# Altium integrated library TI Amplifiers and Linear Operational Amplifier High Speed.IntLib: 1100 symbols (part 40 of 44)
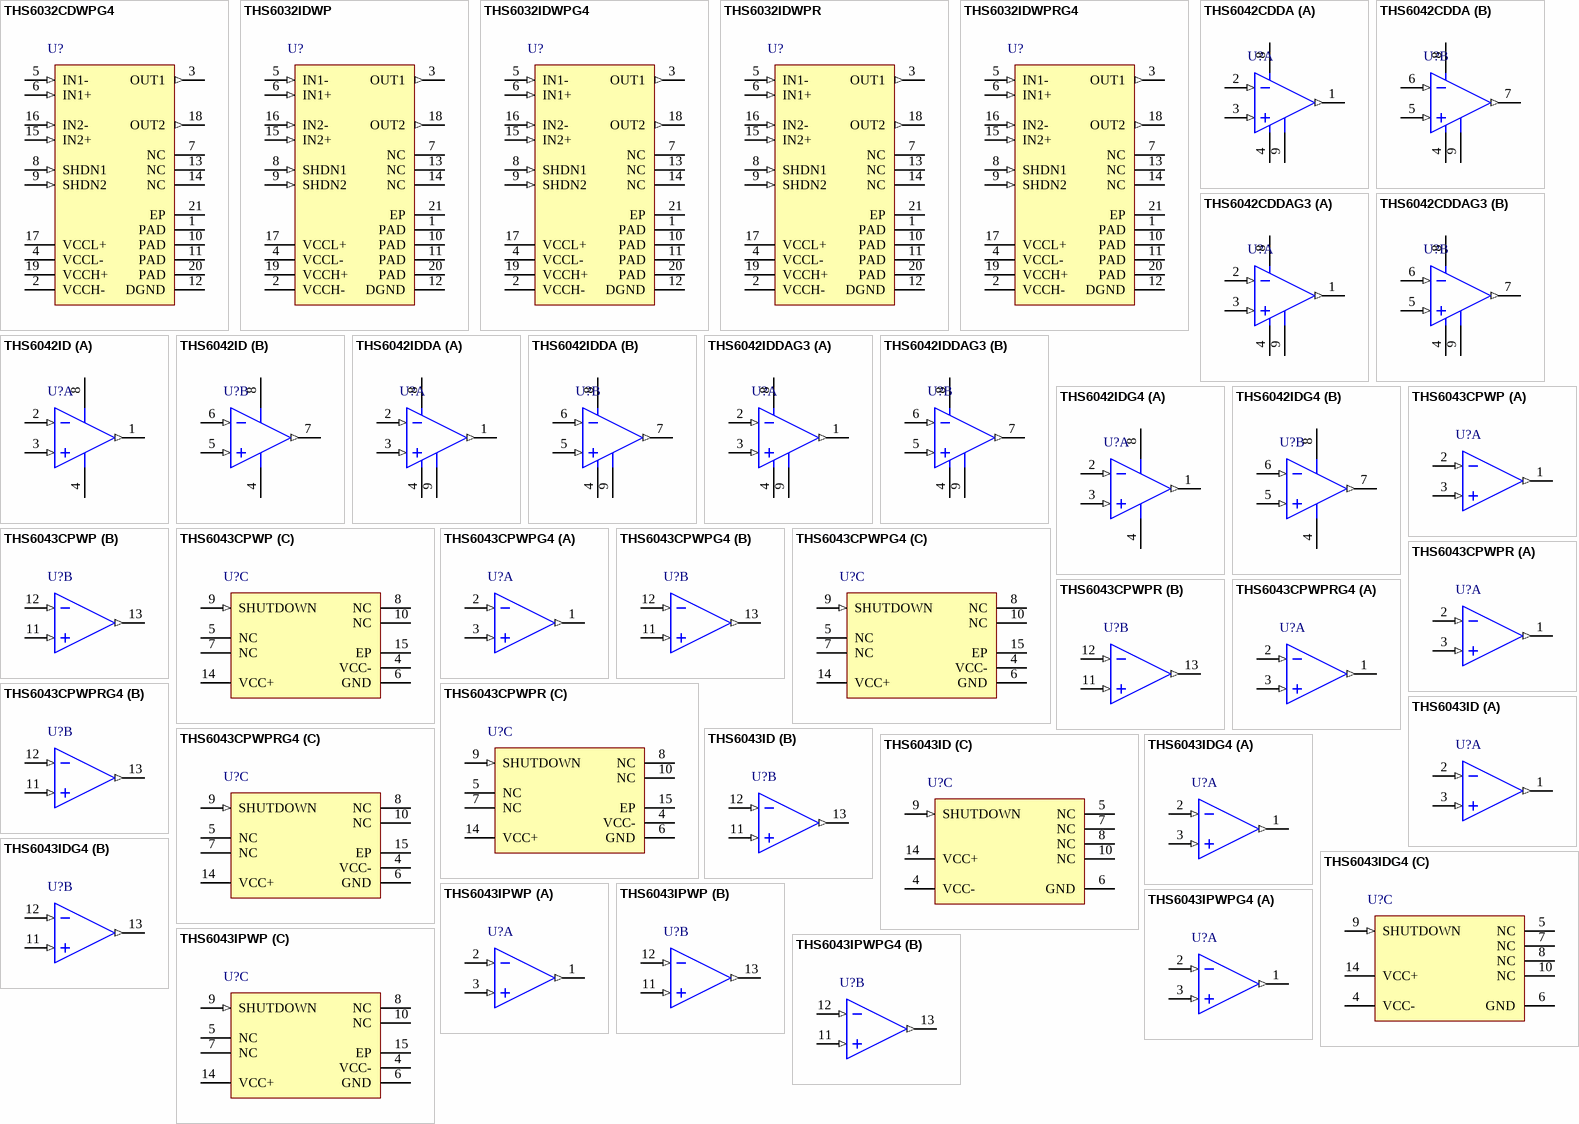
[diagram p90: symbols THS6032CDWPG4 to THS6043IPWPG4]

## THS6042CDDA
designator U?
350 mA, +/-12 V ADSL CPE Line Driver, 10 to 30 V, 0 to 70 degC, 8-pin SOP (DDA8), Green (RoHS & no Sb/Br); Manufacturer: Texas Instruments; PartNumber: THS6042CDDA; 2nd Harmonic(dBc): 53; 3rd Harmonic(dBc): 70; @ MHz: 5; Acl, min stable gain(V/V): 1; BW @ Acl(MHz): 120; Iib(Max)(nA): 12000; Io(Typ)(mA): 350; Number of Channels: 2; Slew Rate(Typ)(V/us): 1200; Sub Family: High Output Current Amplifier (>=50mA), High Speed Amplifier (>=50MHz), High Supply Voltage Amplifier (>=30V); THD (Fc is 1 MHz)(Typ)(dB): -79; Vio(Max)(mV): 21; Vn at Flatband(Typ)(nV/rtHz): 2.2; Vs(Max)(V): 30; Vs(Min)(V): 10; DatasheetVersion: SLOS264G; PackageVersion: 4202561/F, 12/2011; PackageReference: DDA8-3025X2335TP; PackageDescription: 8-Pin PowerPAD(TM) Plastic Small Outline, Body 4.9 x 3.9 mm, Pitch 1.27 mm; Supplier 1: Digi-Key; Supplier Part Number 1: THS6042CDDA-ND; Supplier 2: Newark; Supplier Part Number 2: 76C6533; Supplier 3: Mouser; Supplier Part Number 3: 595-THS6042CDDA; Eco-Plan: Green (RoHS & no Sb/Br); Mounting Technology: Surface Mount; Code_JEDEC: MS-012; ComponentLink1Description: Manufacturer URL; ComponentLink1URL: http://www.ti.com/; ComponentLink2Description: Datasheet; ComponentLink2URL: http://www.ti.com/general/docs/lit/getliterature.tsp?genericPartNumber=THS6042&fileType=pdf; ComponentLink3Description: Package Specification; ComponentLink3URL: http://www.ti.com/litv/pdf/mpds092e
footprint TI-DDA8-3025X2335TP_N (SOP, 8-Leads, Body 4.9x3.9mm, Pitch 1.27mm, Thermal Pad 3.025x2.335mm, IPC Medium Density)
footprint TI-DDA8-3025X2335TP_L (SOP, 8-Leads, Body 4.9x3.9mm, Pitch 1.27mm, Thermal Pad 3.025x2.335mm, IPC High Density)
footprint TI-DDA8-3025X2335TP_M (SOP, 8-Leads, Body 4.9x3.9mm, Pitch 1.27mm, Thermal Pad 3.025x2.335mm, IPC Low Density)
pins on every part: 4 VCC- (power), 8 VCC+ (power), 9 EP
part A pins: 1 OUT D1 (out), 2 IN D1- (in), 3 IN D1+ (in)
part B pins: 5 IN D2+ (in), 6 IN D2- (in), 7 OUT D2 (out)

## THS6042CDDAG3
designator U?
350 mA, +/-12 V ADSL CPE Line Driver, 10 to 30 V, 0 to 70 degC, 8-pin SOP (DDA8), Green (RoHS & no Sb/Br); Manufacturer: Texas Instruments; PartNumber: THS6042CDDAG3; 2nd Harmonic(dBc): 53; 3rd Harmonic(dBc): 70; @ MHz: 5; Acl, min stable gain(V/V): 1; BW @ Acl(MHz): 120; Iib(Max)(nA): 12000; Io(Typ)(mA): 350; Number of Channels: 2; Slew Rate(Typ)(V/us): 1200; Sub Family: High Output Current Amplifier (>=50mA), High Speed Amplifier (>=50MHz), High Supply Voltage Amplifier (>=30V); THD (Fc is 1 MHz)(Typ)(dB): -79; Vio(Max)(mV): 21; Vn at Flatband(Typ)(nV/rtHz): 2.2; Vs(Max)(V): 30; Vs(Min)(V): 10; DatasheetVersion: SLOS264G; PackageVersion: 4202561/F, 12/2011; PackageReference: DDA8-3025X2335TP; PackageDescription: 8-Pin PowerPAD(TM) Plastic Small Outline, Body 4.9 x 3.9 mm, Pitch 1.27 mm; Supplier 1: Digi-Key; Supplier Part Number 1: THS6042CDDAG3-ND; Supplier 2: Mouser; Supplier Part Number 2: 595-THS6042CDDAG3; Eco-Plan: Green (RoHS & no Sb/Br); Mounting Technology: Surface Mount; Code_JEDEC: MS-012; ComponentLink1Description: Manufacturer URL; ComponentLink1URL: http://www.ti.com/; ComponentLink2Description: Datasheet; ComponentLink2URL: http://www.ti.com/general/docs/lit/getliterature.tsp?genericPartNumber=THS6042&fileType=pdf; ComponentLink3Description: Package Specification; ComponentLink3URL: http://www.ti.com/litv/pdf/mpds092e
footprint TI-DDA8-3025X2335TP_N (SOP, 8-Leads, Body 4.9x3.9mm, Pitch 1.27mm, Thermal Pad 3.025x2.335mm, IPC Medium Density)
footprint TI-DDA8-3025X2335TP_L (SOP, 8-Leads, Body 4.9x3.9mm, Pitch 1.27mm, Thermal Pad 3.025x2.335mm, IPC High Density)
footprint TI-DDA8-3025X2335TP_M (SOP, 8-Leads, Body 4.9x3.9mm, Pitch 1.27mm, Thermal Pad 3.025x2.335mm, IPC Low Density)
pins on every part: 4 VCC- (power), 8 VCC+ (power), 9 EP
part A pins: 1 OUT D1 (out), 2 IN D1- (in), 3 IN D1+ (in)
part B pins: 5 IN D2+ (in), 6 IN D2- (in), 7 OUT D2 (out)

## THS6042ID
designator U?
350 mA, +/-12 V ADSL CPE Line Driver, 10 to 30 V, -40 to 85 degC, 8-pin SOIC (D8), Green (RoHS & no Sb/Br); Manufacturer: Texas Instruments; PartNumber: THS6042ID; 2nd Harmonic(dBc): 53; 3rd Harmonic(dBc): 70; @ MHz: 5; Acl, min stable gain(V/V): 1; BW @ Acl(MHz): 120; Iib(Max)(nA): 12000; Io(Typ)(mA): 350; Number of Channels: 2; Slew Rate(Typ)(V/us): 1200; Sub Family: High Output Current Amplifier (>=50mA), High Speed Amplifier (>=50MHz), High Supply Voltage Amplifier (>=30V); THD (Fc is 1 MHz)(Typ)(dB): -79; Vio(Max)(mV): 21; Vn at Flatband(Typ)(nV/rtHz): 2.2; Vs(Max)(V): 30; Vs(Min)(V): 10; DatasheetVersion: SLOS264G; PackageVersion: 4040047-3/M, 06/2011; PackageReference: D8; PackageDescription: 8-Pin Plastic Small Outline, Body 4.9 x 3.9 mm, Pitch 1.27 mm; Supplier 1: Digi-Key; Supplier Part Number 1: 296-12315-5-ND; Supplier 2: Farnell; Supplier Part Number 2: 1755222; Supplier 3: Newark; Supplier Part Number 3: 76C6536; Supplier 4: Mouser; Supplier Part Number 4: 595-THS6042ID; Eco-Plan: Green (RoHS & no Sb/Br); Mounting Technology: Surface Mount; Code_JEDEC: MS-012; ComponentLink1Description: Manufacturer URL; ComponentLink1URL: http://www.ti.com/; ComponentLink2Description: Datasheet; ComponentLink2URL: http://www.ti.com/general/docs/lit/getliterature.tsp?genericPartNumber=THS6042&fileType=pdf; ComponentLink3Description: Package Specification; ComponentLink3URL: http://www.ti.com/litv/pdf/msoi002j
footprint TI-D8_N (SOIC, 8-Leads, Body 4.9x3.9mm, Pitch 1.27mm, IPC Medium Density)
footprint TI-D8_L (SOIC, 8-Leads, Body 4.9x3.9mm, Pitch 1.27mm, IPC High Density)
footprint TI-D8_M (SOIC, 8-Leads, Body 4.9x3.9mm, Pitch 1.27mm, IPC Low Density)
pins on every part: 4 VCC- (power), 8 VCC+ (power)
part A pins: 1 OUT D1 (out), 2 IN D1- (in), 3 IN D1+ (in)
part B pins: 5 IN D2+ (in), 6 IN D2- (in), 7 OUT D2 (out)

## THS6042IDDA
designator U?
350 mA, +/-12 V ADSL CPE Line Driver, 10 to 30 V, -40 to 85 degC, 8-pin SOP (DDA8), Green (RoHS & no Sb/Br); Manufacturer: Texas Instruments; PartNumber: THS6042IDDA; 2nd Harmonic(dBc): 53; 3rd Harmonic(dBc): 70; @ MHz: 5; Acl, min stable gain(V/V): 1; BW @ Acl(MHz): 120; Iib(Max)(nA): 12000; Io(Typ)(mA): 350; Number of Channels: 2; Slew Rate(Typ)(V/us): 1200; Sub Family: High Output Current Amplifier (>=50mA), High Speed Amplifier (>=50MHz), High Supply Voltage Amplifier (>=30V); THD (Fc is 1 MHz)(Typ)(dB): -79; Vio(Max)(mV): 21; Vn at Flatband(Typ)(nV/rtHz): 2.2; Vs(Max)(V): 30; Vs(Min)(V): 10; DatasheetVersion: SLOS264G; PackageVersion: 4202561/F, 12/2011; PackageReference: DDA8-3025X2335TP; PackageDescription: 8-Pin PowerPAD(TM) Plastic Small Outline, Body 4.9 x 3.9 mm, Pitch 1.27 mm; Supplier 1: Digi-Key; Supplier Part Number 1: 296-12667-5-ND; Supplier 2: Newark; Supplier Part Number 2: 76C6537; Supplier 3: Mouser; Supplier Part Number 3: 595-THS6042IDDA; Eco-Plan: Green (RoHS & no Sb/Br); Mounting Technology: Surface Mount; Code_JEDEC: MS-012; ComponentLink1Description: Manufacturer URL; ComponentLink1URL: http://www.ti.com/; ComponentLink2Description: Datasheet; ComponentLink2URL: http://www.ti.com/general/docs/lit/getliterature.tsp?genericPartNumber=THS6042&fileType=pdf; ComponentLink3Description: Package Specification; ComponentLink3URL: http://www.ti.com/litv/pdf/mpds092e
footprint TI-DDA8-3025X2335TP_N (SOP, 8-Leads, Body 4.9x3.9mm, Pitch 1.27mm, Thermal Pad 3.025x2.335mm, IPC Medium Density)
footprint TI-DDA8-3025X2335TP_L (SOP, 8-Leads, Body 4.9x3.9mm, Pitch 1.27mm, Thermal Pad 3.025x2.335mm, IPC High Density)
footprint TI-DDA8-3025X2335TP_M (SOP, 8-Leads, Body 4.9x3.9mm, Pitch 1.27mm, Thermal Pad 3.025x2.335mm, IPC Low Density)
pins on every part: 4 VCC- (power), 8 VCC+ (power), 9 EP
part A pins: 1 OUT D1 (out), 2 IN D1- (in), 3 IN D1+ (in)
part B pins: 5 IN D2+ (in), 6 IN D2- (in), 7 OUT D2 (out)

## THS6042IDDAG3
designator U?
350 mA, +/-12 V ADSL CPE Line Driver, 10 to 30 V, -40 to 85 degC, 8-pin SOP (DDA8), Green (RoHS & no Sb/Br); Manufacturer: Texas Instruments; PartNumber: THS6042IDDAG3; 2nd Harmonic(dBc): 53; 3rd Harmonic(dBc): 70; @ MHz: 5; Acl, min stable gain(V/V): 1; BW @ Acl(MHz): 120; Iib(Max)(nA): 12000; Io(Typ)(mA): 350; Number of Channels: 2; Slew Rate(Typ)(V/us): 1200; Sub Family: High Output Current Amplifier (>=50mA), High Speed Amplifier (>=50MHz), High Supply Voltage Amplifier (>=30V); THD (Fc is 1 MHz)(Typ)(dB): -79; Vio(Max)(mV): 21; Vn at Flatband(Typ)(nV/rtHz): 2.2; Vs(Max)(V): 30; Vs(Min)(V): 10; DatasheetVersion: SLOS264G; PackageVersion: 4202561/F, 12/2011; PackageReference: DDA8-3025X2335TP; PackageDescription: 8-Pin PowerPAD(TM) Plastic Small Outline, Body 4.9 x 3.9 mm, Pitch 1.27 mm; Supplier 1: Digi-Key; Supplier Part Number 1: THS6042IDDAG3-ND; Supplier 2: Newark; Supplier Part Number 2: 18M3155; Supplier 3: Mouser; Supplier Part Number 3: 595-THS6042IDDAG3; Eco-Plan: Green (RoHS & no Sb/Br); Mounting Technology: Surface Mount; Code_JEDEC: MS-012; ComponentLink1Description: Manufacturer URL; ComponentLink1URL: http://www.ti.com/; ComponentLink2Description: Datasheet; ComponentLink2URL: http://www.ti.com/general/docs/lit/getliterature.tsp?genericPartNumber=THS6042&fileType=pdf; ComponentLink3Description: Package Specification; ComponentLink3URL: http://www.ti.com/litv/pdf/mpds092e
footprint TI-DDA8-3025X2335TP_N (SOP, 8-Leads, Body 4.9x3.9mm, Pitch 1.27mm, Thermal Pad 3.025x2.335mm, IPC Medium Density)
footprint TI-DDA8-3025X2335TP_L (SOP, 8-Leads, Body 4.9x3.9mm, Pitch 1.27mm, Thermal Pad 3.025x2.335mm, IPC High Density)
footprint TI-DDA8-3025X2335TP_M (SOP, 8-Leads, Body 4.9x3.9mm, Pitch 1.27mm, Thermal Pad 3.025x2.335mm, IPC Low Density)
pins on every part: 4 VCC- (power), 8 VCC+ (power), 9 EP
part A pins: 1 OUT D1 (out), 2 IN D1- (in), 3 IN D1+ (in)
part B pins: 5 IN D2+ (in), 6 IN D2- (in), 7 OUT D2 (out)

## THS6042IDG4
designator U?
350 mA, +/-12 V ADSL CPE Line Driver, 10 to 30 V, -40 to 85 degC, 8-pin SOIC (D8), Green (RoHS & no Sb/Br); Manufacturer: Texas Instruments; PartNumber: THS6042IDG4; 2nd Harmonic(dBc): 53; 3rd Harmonic(dBc): 70; @ MHz: 5; Acl, min stable gain(V/V): 1; BW @ Acl(MHz): 120; Iib(Max)(nA): 10000; Io(Typ)(mA): 350; Iq per channel(Max)(mA): 11; Number of Channels: 2; Slew Rate(Typ)(V/us): 1200; Sub Family: High Output Current Amplifier (>=50mA), High Speed Amplifier (>=50MHz), High Supply Voltage Amplifier (>=30V); THD (Fc is 1 MHz)(Typ)(dB): -79; Vio(Max)(mV): 16; Vn at Flatband(Typ)(nV/rtHz): 2.2; Vs(Max)(V): 30; Vs(Min)(V): 10; DatasheetVersion: SLOS264G; PackageVersion: 4040047-3/M, 06/2011; PackageReference: D8; PackageDescription: 8-Pin Plastic Small Outline, Body 4.9 x 3.9 mm, Pitch 1.27 mm; Supplier 1: Digi-Key; Supplier Part Number 1: THS6042IDG4-ND; Supplier 2: Mouser; Supplier Part Number 2: 595-THS6042IDG4; Eco-Plan: Green (RoHS & no Sb/Br); Mounting Technology: Surface Mount; Code_JEDEC: MS-012; ComponentLink1Description: Manufacturer URL; ComponentLink1URL: http://www.ti.com/; ComponentLink2Description: Datasheet; ComponentLink2URL: http://www.ti.com/general/docs/lit/getliterature.tsp?genericPartNumber=THS6042&fileType=pdf; ComponentLink3Description: Package Specification; ComponentLink3URL: http://www.ti.com/litv/pdf/msoi002j
footprint TI-D8_N (SOIC, 8-Leads, Body 4.9x3.9mm, Pitch 1.27mm, IPC Medium Density)
footprint TI-D8_L (SOIC, 8-Leads, Body 4.9x3.9mm, Pitch 1.27mm, IPC High Density)
footprint TI-D8_M (SOIC, 8-Leads, Body 4.9x3.9mm, Pitch 1.27mm, IPC Low Density)
pins on every part: 4 VCC- (power), 8 VCC+ (power)
part A pins: 1 OUT D1 (out), 2 IN D1- (in), 3 IN D1+ (in)
part B pins: 5 IN D2+ (in), 6 IN D2- (in), 7 OUT D2 (out)

## THS6043CPWP
designator U?
350 mA, +/-12 V ADSL CPE Line Driver with Shutdown, 10 to 30 V, 0 to 70 degC, 14-pin SOP (PWP14), Green (RoHS & no Sb/Br); Manufacturer: Texas Instruments; PartNumber: THS6043CPWP; 2nd Harmonic(dBc): 53; 3rd Harmonic(dBc): 70; @ MHz: 5; Acl, min stable gain(V/V): 1; BW @ Acl(MHz): 120; Iib(Max)(nA): 12000; Io(Typ)(mA): 350; Number of Channels: 2; Slew Rate(Typ)(V/us): 1200; Sub Family: High Output Current Amplifier (>=50mA), High Speed Amplifier (>=50MHz), High Supply Voltage Amplifier (>=30V); THD (Fc is 1 MHz)(Typ)(dB): -79; Vio(Max)(mV): 21; Vn at Flatband(Typ)(nV/rtHz): 2.2; Vs(Max)(V): 30; Vs(Min)(V): 10; DatasheetVersion: SLOS264G; PackageVersion: 4073225-2/I, 05/2011; PackageReference: PWP14-1830X2055TP; PackageDescription: 14-Pin Plastic Small Outline, Body 4.4 x 5 mm, Pitch 0.65 mm; Supplier 1: Digi-Key; Supplier Part Number 1: 296-34231-5-ND; Supplier 2: Newark; Supplier Part Number 2: 76C6542; Supplier 3: Mouser; Supplier Part Number 3: 595-THS6043CPWP; Eco-Plan: Green (RoHS & no Sb/Br); Mounting Technology: Surface Mount; Code_JEDEC: MO-153; ComponentLink1Description: Manufacturer URL; ComponentLink1URL: http://www.ti.com/; ComponentLink2Description: Datasheet; ComponentLink2URL: http://www.ti.com/general/docs/lit/getliterature.tsp?genericPartNumber=THS6043&fileType=pdf; ComponentLink3Description: Package Specification; ComponentLink3URL: http://www.ti.com/litv/pdf/mpds373
footprint TI-PWP14-1830X2055TP_N (SOP, 14-Leads, Body 5x4.4mm, Pitch 0.65mm, Thermal Pad 1.830x2.055mm, IPC Medium Density)
footprint TI-PWP14-1830X2055TP_L (SOP, 14-Leads, Body 5x4.4mm, Pitch 0.65mm, Thermal Pad 1.830x2.055mm, IPC High Density)
footprint TI-PWP14-1830X2055TP_M (SOP, 14-Leads, Body 5x4.4mm, Pitch 0.65mm, Thermal Pad 1.830x2.055mm, IPC Low Density)
part A pins: 1 OUT D1 (out), 2 IN D1- (in), 3 IN D1+ (in)
part B pins: 11 IN D2+ (in), 12 IN D2- (in), 13 OUT D2 (out)
part C pins: 4 VCC- (power), 5 NC, 6 GND (power), 7 NC, 8 NC, 9 SHUTDOWN (in), 10 NC, 14 VCC+ (power), 15 EP

## THS6043CPWPG4
designator U?
350 mA, +/-12 V ADSL CPE Line Driver with Shutdown, 10 to 30 V, 0 to 70 degC, 14-pin SOP (PWP14), Green (RoHS & no Sb/Br); Manufacturer: Texas Instruments; PartNumber: THS6043CPWPG4; 2nd Harmonic(dBc): 53; 3rd Harmonic(dBc): 70; @ MHz: 5; Acl, min stable gain(V/V): 1; BW @ Acl(MHz): 120; Iib(Max)(nA): 12000; Io(Typ)(mA): 350; Number of Channels: 2; Slew Rate(Typ)(V/us): 1200; Sub Family: High Output Current Amplifier (>=50mA), High Speed Amplifier (>=50MHz), High Supply Voltage Amplifier (>=30V); THD (Fc is 1 MHz)(Typ)(dB): -79; Vio(Max)(mV): 21; Vn at Flatband(Typ)(nV/rtHz): 2.2; Vs(Max)(V): 30; Vs(Min)(V): 10; DatasheetVersion: SLOS264G; PackageVersion: 4073225-2/I, 05/2011; PackageReference: PWP14-1830X2055TP; PackageDescription: 14-Pin Plastic Small Outline, Body 4.4 x 5 mm, Pitch 0.65 mm; Supplier 1: Digi-Key; Supplier Part Number 1: THS6043CPWPG4-ND; Supplier 2: Mouser; Supplier Part Number 2: 595-THS6043CPWPG4; Eco-Plan: Green (RoHS & no Sb/Br); Mounting Technology: Surface Mount; Code_JEDEC: MO-153; ComponentLink1Description: Manufacturer URL; ComponentLink1URL: http://www.ti.com/; ComponentLink2Description: Datasheet; ComponentLink2URL: http://www.ti.com/general/docs/lit/getliterature.tsp?genericPartNumber=THS6043&fileType=pdf; ComponentLink3Description: Package Specification; ComponentLink3URL: http://www.ti.com/litv/pdf/mpds373
footprint TI-PWP14-1830X2055TP_N (SOP, 14-Leads, Body 5x4.4mm, Pitch 0.65mm, Thermal Pad 1.830x2.055mm, IPC Medium Density)
footprint TI-PWP14-1830X2055TP_L (SOP, 14-Leads, Body 5x4.4mm, Pitch 0.65mm, Thermal Pad 1.830x2.055mm, IPC High Density)
footprint TI-PWP14-1830X2055TP_M (SOP, 14-Leads, Body 5x4.4mm, Pitch 0.65mm, Thermal Pad 1.830x2.055mm, IPC Low Density)
part A pins: 1 OUT D1 (out), 2 IN D1- (in), 3 IN D1+ (in)
part B pins: 11 IN D2+ (in), 12 IN D2- (in), 13 OUT D2 (out)
part C pins: 4 VCC- (power), 5 NC, 6 GND (power), 7 NC, 8 NC, 9 SHUTDOWN (in), 10 NC, 14 VCC+ (power), 15 EP

## THS6043CPWPR
designator U?
350 mA, +/-12 V ADSL CPE Line Driver with Shutdown, 10 to 30 V, 0 to 70 degC, 14-pin SOP (PWP14), Green (RoHS & no Sb/Br); Manufacturer: Texas Instruments; PartNumber: THS6043CPWPR; 2nd Harmonic(dBc): 53; 3rd Harmonic(dBc): 70; @ MHz: 5; Acl, min stable gain(V/V): 1; BW @ Acl(MHz): 120; Iib(Max)(nA): 12000; Io(Typ)(mA): 350; Number of Channels: 2; Slew Rate(Typ)(V/us): 1200; Sub Family: High Output Current Amplifier (>=50mA), High Speed Amplifier (>=50MHz), High Supply Voltage Amplifier (>=30V); THD (Fc is 1 MHz)(Typ)(dB): -79; Vio(Max)(mV): 21; Vn at Flatband(Typ)(nV/rtHz): 2.2; Vs(Max)(V): 30; Vs(Min)(V): 10; DatasheetVersion: SLOS264G; PackageVersion: 4073225-2/I, 05/2011; PackageReference: PWP14-1830X2055TP; PackageDescription: 14-Pin Plastic Small Outline, Body 4.4 x 5 mm, Pitch 0.65 mm; Supplier 1: Digi-Key; Supplier Part Number 1: THS6043CPWPR-ND; Supplier 2: Mouser; Supplier Part Number 2: 595-THS6043CPWPR; Eco-Plan: Green (RoHS & no Sb/Br); Mounting Technology: Surface Mount; Code_JEDEC: MO-153; ComponentLink1Description: Manufacturer URL; ComponentLink1URL: http://www.ti.com/; ComponentLink2Description: Datasheet; ComponentLink2URL: http://www.ti.com/general/docs/lit/getliterature.tsp?genericPartNumber=THS6043&fileType=pdf; ComponentLink3Description: Package Specification; ComponentLink3URL: http://www.ti.com/litv/pdf/mpds373
footprint TI-PWP14-1830X2055TP_N (SOP, 14-Leads, Body 5x4.4mm, Pitch 0.65mm, Thermal Pad 1.830x2.055mm, IPC Medium Density)
footprint TI-PWP14-1830X2055TP_L (SOP, 14-Leads, Body 5x4.4mm, Pitch 0.65mm, Thermal Pad 1.830x2.055mm, IPC High Density)
footprint TI-PWP14-1830X2055TP_M (SOP, 14-Leads, Body 5x4.4mm, Pitch 0.65mm, Thermal Pad 1.830x2.055mm, IPC Low Density)
part A pins: 1 OUT D1 (out), 2 IN D1- (in), 3 IN D1+ (in)
part B pins: 11 IN D2+ (in), 12 IN D2- (in), 13 OUT D2 (out)
part C pins: 4 VCC- (power), 5 NC, 6 GND (power), 7 NC, 8 NC, 9 SHUTDOWN (in), 10 NC, 14 VCC+ (power), 15 EP

## THS6043CPWPRG4
designator U?
350 mA, +/-12 V ADSL CPE Line Driver with Shutdown, 10 to 30 V, 0 to 70 degC, 14-pin SOP (PWP14), Green (RoHS & no Sb/Br); Manufacturer: Texas Instruments; PartNumber: THS6043CPWPRG4; 2nd Harmonic(dBc): 53; 3rd Harmonic(dBc): 70; @ MHz: 5; Acl, min stable gain(V/V): 1; BW @ Acl(MHz): 120; Iib(Max)(nA): 12000; Io(Typ)(mA): 350; Number of Channels: 2; Slew Rate(Typ)(V/us): 1200; Sub Family: High Output Current Amplifier (>=50mA), High Speed Amplifier (>=50MHz), High Supply Voltage Amplifier (>=30V); THD (Fc is 1 MHz)(Typ)(dB): -79; Vio(Max)(mV): 21; Vn at Flatband(Typ)(nV/rtHz): 2.2; Vs(Max)(V): 30; Vs(Min)(V): 10; DatasheetVersion: SLOS264G; PackageVersion: 4073225-2/I, 05/2011; PackageReference: PWP14-1830X2055TP; PackageDescription: 14-Pin Plastic Small Outline, Body 4.4 x 5 mm, Pitch 0.65 mm; Supplier 1: Digi-Key; Supplier Part Number 1: THS6043CPWPRG4-ND; Supplier 2: Mouser; Supplier Part Number 2: 595-THS6043CPWPRG4; Eco-Plan: Green (RoHS & no Sb/Br); Mounting Technology: Surface Mount; Code_JEDEC: MO-153; ComponentLink1Description: Manufacturer URL; ComponentLink1URL: http://www.ti.com/; ComponentLink2Description: Datasheet; ComponentLink2URL: http://www.ti.com/general/docs/lit/getliterature.tsp?genericPartNumber=THS6043&fileType=pdf; ComponentLink3Description: Package Specification; ComponentLink3URL: http://www.ti.com/litv/pdf/mpds373
footprint TI-PWP14-1830X2055TP_N (SOP, 14-Leads, Body 5x4.4mm, Pitch 0.65mm, Thermal Pad 1.830x2.055mm, IPC Medium Density)
footprint TI-PWP14-1830X2055TP_L (SOP, 14-Leads, Body 5x4.4mm, Pitch 0.65mm, Thermal Pad 1.830x2.055mm, IPC High Density)
footprint TI-PWP14-1830X2055TP_M (SOP, 14-Leads, Body 5x4.4mm, Pitch 0.65mm, Thermal Pad 1.830x2.055mm, IPC Low Density)
part A pins: 1 OUT D1 (out), 2 IN D1- (in), 3 IN D1+ (in)
part B pins: 11 IN D2+ (in), 12 IN D2- (in), 13 OUT D2 (out)
part C pins: 4 VCC- (power), 5 NC, 6 GND (power), 7 NC, 8 NC, 9 SHUTDOWN (in), 10 NC, 14 VCC+ (power), 15 EP

## THS6043ID
designator U?
350 mA, +/-12 V ADSL CPE Line Driver with Shutdown, 10 to 30 V, -40 to 85 degC, 14-pin SOIC (D14), Green (RoHS & no Sb/Br); Manufacturer: Texas Instruments; PartNumber: THS6043ID; 2nd Harmonic(dBc): 53; 3rd Harmonic(dBc): 70; @ MHz: 5; Acl, min stable gain(V/V): 1; BW @ Acl(MHz): 120; Iib(Max)(nA): 12000; Io(Typ)(mA): 350; Number of Channels: 2; Slew Rate(Typ)(V/us): 1200; Sub Family: High Output Current Amplifier (>=50mA), High Speed Amplifier (>=50MHz), High Supply Voltage Amplifier (>=30V); THD (Fc is 1 MHz)(Typ)(dB): -79; Vio(Max)(mV): 21; Vn at Flatband(Typ)(nV/rtHz): 2.2; Vs(Max)(V): 30; Vs(Min)(V): 10; DatasheetVersion: SLOS264G; PackageVersion: 4040047-5/M, 06/2011; PackageReference: D14; PackageDescription: 14-Pin Plastic Small Outline, Body 8.65 x 3.9 mm, Pitch 1.27 mm; Supplier 1: Digi-Key; Supplier Part Number 1: 296-12316-5-ND; Supplier 2: Mouser; Supplier Part Number 2: 595-THS6043ID; Eco-Plan: Green (RoHS & no Sb/Br); Mounting Technology: Surface Mount; Code_JEDEC: MS-012; ComponentLink1Description: Manufacturer URL; ComponentLink1URL: http://www.ti.com/; ComponentLink2Description: Datasheet; ComponentLink2URL: http://www.ti.com/general/docs/lit/getliterature.tsp?genericPartNumber=THS6043&fileType=pdf; ComponentLink3Description: Package Specification; ComponentLink3URL: http://www.ti.com/lit/ml/mpds177g/mpds177g.pdf
footprint TI-D14_N (SOIC, 14-Leads, Body 8.65x3.9mm, Pitch 1.27mm, IPC Medium Density)
footprint TI-D14_L (SOIC, 14-Leads, Body 8.65x3.9mm, Pitch 1.27mm, IPC High Density)
footprint TI-D14_M (SOIC, 14-Leads, Body 8.65x3.9mm, Pitch 1.27mm, IPC Low Density)
part A pins: 1 OUT D1 (out), 2 IN D1- (in), 3 IN D1+ (in)
part B pins: 11 IN D2+ (in), 12 IN D2- (in), 13 OUT D2 (out)
part C pins: 4 VCC- (power), 5 NC, 6 GND (power), 7 NC, 8 NC, 9 SHUTDOWN (in), 10 NC, 14 VCC+ (power)

## THS6043IDG4
designator U?
350 mA, +/-12 V ADSL CPE Line Driver with Shutdown, 10 to 30 V, -40 to 85 degC, 14-pin SOIC (D14), Green (RoHS & no Sb/Br); Manufacturer: Texas Instruments; PartNumber: THS6043IDG4; 2nd Harmonic(dBc): 53; 3rd Harmonic(dBc): 70; @ MHz: 5; Acl, min stable gain(V/V): 1; BW @ Acl(MHz): 120; Iib(Max)(nA): 12000; Io(Typ)(mA): 350; Number of Channels: 2; Slew Rate(Typ)(V/us): 1200; Sub Family: High Output Current Amplifier (>=50mA), High Speed Amplifier (>=50MHz), High Supply Voltage Amplifier (>=30V); THD (Fc is 1 MHz)(Typ)(dB): -79; Vio(Max)(mV): 21; Vn at Flatband(Typ)(nV/rtHz): 2.2; Vs(Max)(V): 30; Vs(Min)(V): 10; DatasheetVersion: SLOS264G; PackageVersion: 4040047-5/M, 06/2011; PackageReference: D14; PackageDescription: 14-Pin Plastic Small Outline, Body 8.65 x 3.9 mm, Pitch 1.27 mm; Supplier 1: Digi-Key; Supplier Part Number 1: THS6043IDG4-ND; Supplier 2: Mouser; Supplier Part Number 2: 595-THS6043IDG4; Eco-Plan: Green (RoHS & no Sb/Br); Mounting Technology: Surface Mount; Code_JEDEC: MS-012; ComponentLink1Description: Manufacturer URL; ComponentLink1URL: http://www.ti.com/; ComponentLink2Description: Datasheet; ComponentLink2URL: http://www.ti.com/general/docs/lit/getliterature.tsp?genericPartNumber=THS6043&fileType=pdf; ComponentLink3Description: Package Specification; ComponentLink3URL: http://www.ti.com/lit/ml/mpds177g/mpds177g.pdf
footprint TI-D14_N (SOIC, 14-Leads, Body 8.65x3.9mm, Pitch 1.27mm, IPC Medium Density)
footprint TI-D14_L (SOIC, 14-Leads, Body 8.65x3.9mm, Pitch 1.27mm, IPC High Density)
footprint TI-D14_M (SOIC, 14-Leads, Body 8.65x3.9mm, Pitch 1.27mm, IPC Low Density)
part A pins: 1 OUT D1 (out), 2 IN D1- (in), 3 IN D1+ (in)
part B pins: 11 IN D2+ (in), 12 IN D2- (in), 13 OUT D2 (out)
part C pins: 4 VCC- (power), 5 NC, 6 GND (power), 7 NC, 8 NC, 9 SHUTDOWN (in), 10 NC, 14 VCC+ (power)

## THS6043IPWP
designator U?
350 mA, +/-12 V ADSL CPE Line Driver with Shutdown, 10 to 30 V, -40 to 85 degC, 14-pin SOP (PWP14), Green (RoHS & no Sb/Br); Manufacturer: Texas Instruments; PartNumber: THS6043IPWP; 2nd Harmonic(dBc): 53; 3rd Harmonic(dBc): 70; @ MHz: 5; Acl, min stable gain(V/V): 1; BW @ Acl(MHz): 120; Iib(Max)(nA): 12000; Io(Typ)(mA): 350; Number of Channels: 2; Slew Rate(Typ)(V/us): 1200; Sub Family: High Output Current Amplifier (>=50mA), High Speed Amplifier (>=50MHz), High Supply Voltage Amplifier (>=30V); THD (Fc is 1 MHz)(Typ)(dB): -79; Vio(Max)(mV): 21; Vn at Flatband(Typ)(nV/rtHz): 2.2; Vs(Max)(V): 30; Vs(Min)(V): 10; DatasheetVersion: SLOS264G; PackageVersion: 4073225-2/I, 05/2011; PackageReference: PWP14-1830X2055TP; PackageDescription: 14-Pin Plastic Small Outline, Body 4.4 x 5 mm, Pitch 0.65 mm; Supplier 1: Digi-Key; Supplier Part Number 1: 296-12317-5-ND; Supplier 2: Mouser; Supplier Part Number 2: 595-THS6043IPWP; Eco-Plan: Green (RoHS & no Sb/Br); Mounting Technology: Surface Mount; Code_JEDEC: MO-153; ComponentLink1Description: Manufacturer URL; ComponentLink1URL: http://www.ti.com/; ComponentLink2Description: Datasheet; ComponentLink2URL: http://www.ti.com/general/docs/lit/getliterature.tsp?genericPartNumber=THS6043&fileType=pdf; ComponentLink3Description: Package Specification; ComponentLink3URL: http://www.ti.com/litv/pdf/mpds373
footprint TI-PWP14-1830X2055TP_N (SOP, 14-Leads, Body 5x4.4mm, Pitch 0.65mm, Thermal Pad 1.830x2.055mm, IPC Medium Density)
footprint TI-PWP14-1830X2055TP_L (SOP, 14-Leads, Body 5x4.4mm, Pitch 0.65mm, Thermal Pad 1.830x2.055mm, IPC High Density)
footprint TI-PWP14-1830X2055TP_M (SOP, 14-Leads, Body 5x4.4mm, Pitch 0.65mm, Thermal Pad 1.830x2.055mm, IPC Low Density)
part A pins: 1 OUT D1 (out), 2 IN D1- (in), 3 IN D1+ (in)
part B pins: 11 IN D2+ (in), 12 IN D2- (in), 13 OUT D2 (out)
part C pins: 4 VCC- (power), 5 NC, 6 GND (power), 7 NC, 8 NC, 9 SHUTDOWN (in), 10 NC, 14 VCC+ (power), 15 EP

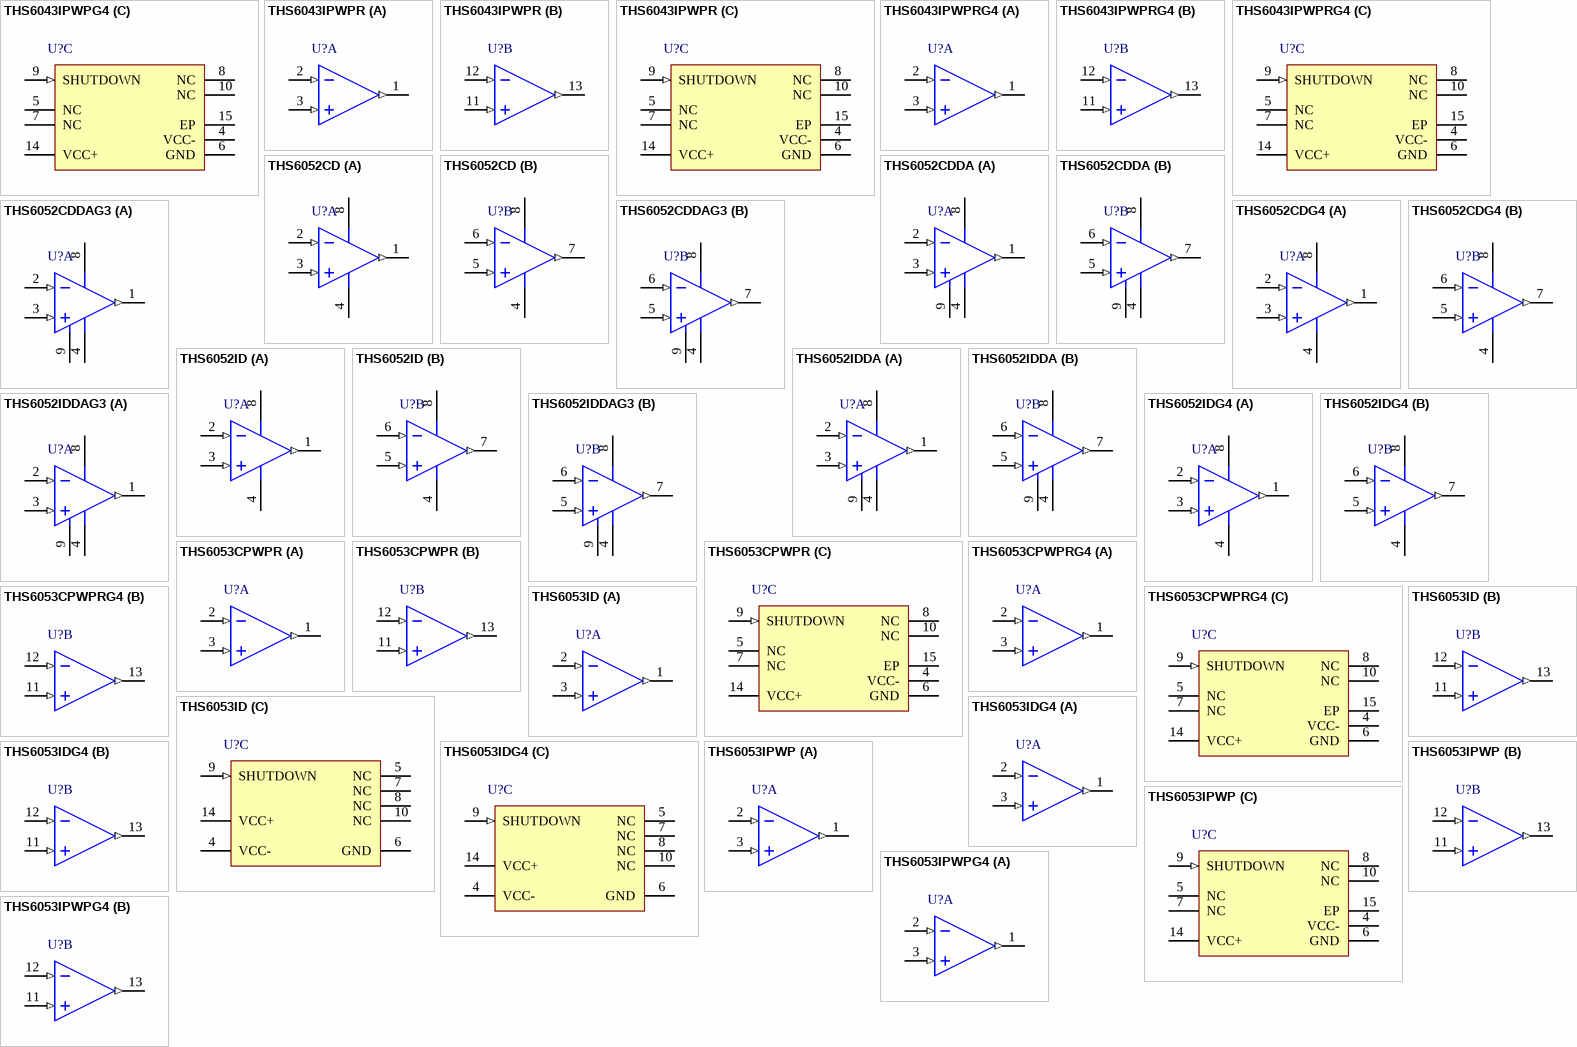
[diagram p47: symbols THS6043IPWPG4 to THS6053IPWPG4]

## THS6043IPWPG4
designator U?
350 mA, +/-12 V ADSL CPE Line Driver with Shutdown, 10 to 30 V, -40 to 85 degC, 14-pin SOP (PWP14), Green (RoHS & no Sb/Br); Manufacturer: Texas Instruments; PartNumber: THS6043IPWPG4; 2nd Harmonic(dBc): 53; 3rd Harmonic(dBc): 70; @ MHz: 5; Acl, min stable gain(V/V): 1; BW @ Acl(MHz): 120; Iib(Max)(nA): 12000; Io(Typ)(mA): 350; Number of Channels: 2; Slew Rate(Typ)(V/us): 1200; Sub Family: High Output Current Amplifier (>=50mA), High Speed Amplifier (>=50MHz), High Supply Voltage Amplifier (>=30V); THD (Fc is 1 MHz)(Typ)(dB): -79; Vio(Max)(mV): 21; Vn at Flatband(Typ)(nV/rtHz): 2.2; Vs(Max)(V): 30; Vs(Min)(V): 10; DatasheetVersion: SLOS264G; PackageVersion: 4073225-2/I, 05/2011; PackageReference: PWP14-1830X2055TP; PackageDescription: 14-Pin Plastic Small Outline, Body 4.4 x 5 mm, Pitch 0.65 mm; Supplier 1: Digi-Key; Supplier Part Number 1: THS6043IPWPG4-ND; Supplier 2: Mouser; Supplier Part Number 2: 595-THS6043IPWPG4; Eco-Plan: Green (RoHS & no Sb/Br); Mounting Technology: Surface Mount; Code_JEDEC: MO-153; ComponentLink1Description: Manufacturer URL; ComponentLink1URL: http://www.ti.com/; ComponentLink2Description: Datasheet; ComponentLink2URL: http://www.ti.com/general/docs/lit/getliterature.tsp?genericPartNumber=THS6043&fileType=pdf; ComponentLink3Description: Package Specification; ComponentLink3URL: http://www.ti.com/litv/pdf/mpds373
footprint TI-PWP14-1830X2055TP_N (SOP, 14-Leads, Body 5x4.4mm, Pitch 0.65mm, Thermal Pad 1.830x2.055mm, IPC Medium Density)
footprint TI-PWP14-1830X2055TP_L (SOP, 14-Leads, Body 5x4.4mm, Pitch 0.65mm, Thermal Pad 1.830x2.055mm, IPC High Density)
footprint TI-PWP14-1830X2055TP_M (SOP, 14-Leads, Body 5x4.4mm, Pitch 0.65mm, Thermal Pad 1.830x2.055mm, IPC Low Density)
part A pins: 1 OUT D1 (out), 2 IN D1- (in), 3 IN D1+ (in)
part B pins: 11 IN D2+ (in), 12 IN D2- (in), 13 OUT D2 (out)
part C pins: 4 VCC- (power), 5 NC, 6 GND (power), 7 NC, 8 NC, 9 SHUTDOWN (in), 10 NC, 14 VCC+ (power), 15 EP

## THS6043IPWPR
designator U?
350 mA, +/-12 V ADSL CPE Line Driver with Shutdown, 10 to 30 V, -40 to 85 degC, 14-pin SOP (PWP14), Green (RoHS & no Sb/Br); Manufacturer: Texas Instruments; PartNumber: THS6043IPWPR; 2nd Harmonic(dBc): 53; 3rd Harmonic(dBc): 70; @ MHz: 5; Acl, min stable gain(V/V): 1; BW @ Acl(MHz): 120; Iib(Max)(nA): 12000; Io(Typ)(mA): 350; Number of Channels: 2; Slew Rate(Typ)(V/us): 1200; Sub Family: High Output Current Amplifier (>=50mA), High Speed Amplifier (>=50MHz), High Supply Voltage Amplifier (>=30V); THD (Fc is 1 MHz)(Typ)(dB): -79; Vio(Max)(mV): 21; Vn at Flatband(Typ)(nV/rtHz): 2.2; Vs(Max)(V): 30; Vs(Min)(V): 10; DatasheetVersion: SLOS264G; PackageVersion: 4073225-2/I, 05/2011; PackageReference: PWP14-1830X2055TP; PackageDescription: 14-Pin Plastic Small Outline, Body 4.4 x 5 mm, Pitch 0.65 mm; Supplier 1: Digi-Key; Supplier Part Number 1: THS6043IPWPR-ND; Supplier 2: Mouser; Supplier Part Number 2: 595-THS6043IPWPR; Eco-Plan: Green (RoHS & no Sb/Br); Mounting Technology: Surface Mount; Code_JEDEC: MO-153; ComponentLink1Description: Manufacturer URL; ComponentLink1URL: http://www.ti.com/; ComponentLink2Description: Datasheet; ComponentLink2URL: http://www.ti.com/general/docs/lit/getliterature.tsp?genericPartNumber=THS6043&fileType=pdf; ComponentLink3Description: Package Specification; ComponentLink3URL: http://www.ti.com/litv/pdf/mpds373
footprint TI-PWP14-1830X2055TP_N (SOP, 14-Leads, Body 5x4.4mm, Pitch 0.65mm, Thermal Pad 1.830x2.055mm, IPC Medium Density)
footprint TI-PWP14-1830X2055TP_L (SOP, 14-Leads, Body 5x4.4mm, Pitch 0.65mm, Thermal Pad 1.830x2.055mm, IPC High Density)
footprint TI-PWP14-1830X2055TP_M (SOP, 14-Leads, Body 5x4.4mm, Pitch 0.65mm, Thermal Pad 1.830x2.055mm, IPC Low Density)
part A pins: 1 OUT D1 (out), 2 IN D1- (in), 3 IN D1+ (in)
part B pins: 11 IN D2+ (in), 12 IN D2- (in), 13 OUT D2 (out)
part C pins: 4 VCC- (power), 5 NC, 6 GND (power), 7 NC, 8 NC, 9 SHUTDOWN (in), 10 NC, 14 VCC+ (power), 15 EP

## THS6043IPWPRG4
designator U?
350 mA, +/-12 V ADSL CPE Line Driver with Shutdown, 10 to 30 V, -40 to 85 degC, 14-pin SOP (PWP14), Green (RoHS & no Sb/Br); Manufacturer: Texas Instruments; PartNumber: THS6043IPWPRG4; 2nd Harmonic(dBc): 65; 3rd Harmonic(dBc): 62; @ MHz: 5; Acl, min stable gain(V/V): 1; BW @ Acl(MHz): 120; Diff Gain(%): 0.015; Diff Phase(deg): 0.025; Iib(Max)(nA): 10000; Io(Typ)(mA): 350; Iq per channel(Max)(mA): 11; Settling Time (0.1%)(Typ)(ns): 60; Slew Rate(Typ)(V/us): 1200; Sub Family: High Output Current Amplifier (>=50mA), High Speed Amplifier (>=50MHz), High Supply Voltage Amplifier (>=30V); THD (Fc is 1 MHz)(Typ)(dB): -79; Vio(Max)(mV): 21; Vn at Flatband(Typ)(nV/rtHz): 2.2; Vs(Max)(V): 30; Vs(Min)(V): 10; DatasheetVersion: SLOS264G; PackageVersion: 4073225-2/I, 05/2011; PackageReference: PWP14-1830X2055TP; PackageDescription: 14-Pin Plastic Small Outline, Body 4.4 x 5 mm, Pitch 0.65 mm; Supplier 1: Digi-Key; Supplier Part Number 1: THS6043IPWPRG4-ND; Supplier 2: Mouser; Supplier Part Number 2: 595-THS6043IPWPRG4; Eco-Plan: Green (RoHS & no Sb/Br); Number of Channels: 1; Mounting Technology: Surface Mount; Code_JEDEC: MO-153; ComponentLink1Description: Manufacturer URL; ComponentLink1URL: http://www.ti.com/; ComponentLink2Description: Datasheet; ComponentLink2URL: http://www.ti.com/general/docs/lit/getliterature.tsp?genericPartNumber=THS6043&fileType=pdf; ComponentLink3Description: Package Specification; ComponentLink3URL: http://www.ti.com/litv/pdf/mpds373
footprint TI-PWP14-1830X2055TP_N (SOP, 14-Leads, Body 5x4.4mm, Pitch 0.65mm, Thermal Pad 1.830x2.055mm, IPC Medium Density)
footprint TI-PWP14-1830X2055TP_L (SOP, 14-Leads, Body 5x4.4mm, Pitch 0.65mm, Thermal Pad 1.830x2.055mm, IPC High Density)
footprint TI-PWP14-1830X2055TP_M (SOP, 14-Leads, Body 5x4.4mm, Pitch 0.65mm, Thermal Pad 1.830x2.055mm, IPC Low Density)
part A pins: 1 OUT D1 (out), 2 IN D1- (in), 3 IN D1+ (in)
part B pins: 11 IN D2+ (in), 12 IN D2- (in), 13 OUT D2 (out)
part C pins: 4 VCC- (power), 5 NC, 6 GND (power), 7 NC, 8 NC, 9 SHUTDOWN (in), 10 NC, 14 VCC+ (power), 15 EP

## THS6052CD
designator U?
175 mA, +/-12 V ADSL CPE Line Driver, 10 to 30 V, 0 to 70 degC, 8-pin SOIC (D8), Green (RoHS & no Sb/Br); Manufacturer: Texas Instruments; PartNumber: THS6052CD; Acl, min stable gain(V/V): 1; BW @ Acl(MHz): 170; Iib(Max)(nA): 12; Io(Typ)(mA): 175; Number of Channels: 2; Slew Rate(Typ)(V/us): 1500; Sub Family: High Output Current Amplifier (>=50mA), High Speed Amplifier (>=50MHz), High Supply Voltage Amplifier (>=30V); THD (Fc is 1 MHz)(Typ)(dB): -83; Vio(Max)(mV): 15; Vn at Flatband(Typ)(nV/rtHz): 2.1; Vs(Max)(V): 30; Vs(Min)(V): 10; DatasheetVersion: SLOS293D; PackageVersion: 4040047-3/M, 06/2011; PackageReference: D8; PackageDescription: 8-Pin Plastic Small Outline, Body 4.9 x 3.9 mm, Pitch 1.27 mm; Supplier 1: Digi-Key; Supplier Part Number 1: THS6052CD-ND; Supplier 2: Mouser; Supplier Part Number 2: 595-THS6052CD; Eco-Plan: Green (RoHS & no Sb/Br); Mounting Technology: Surface Mount; Code_JEDEC: MS-012; ComponentLink1Description: Manufacturer URL; ComponentLink1URL: http://www.ti.com/; ComponentLink2Description: Datasheet; ComponentLink2URL: http://www.ti.com/general/docs/lit/getliterature.tsp?genericPartNumber=THS6052&fileType=pdf; ComponentLink3Description: Package Specification; ComponentLink3URL: http://www.ti.com/litv/pdf/msoi002j
footprint TI-D8_N (SOIC, 8-Leads, Body 4.9x3.9mm, Pitch 1.27mm, IPC Medium Density)
footprint TI-D8_L (SOIC, 8-Leads, Body 4.9x3.9mm, Pitch 1.27mm, IPC High Density)
footprint TI-D8_M (SOIC, 8-Leads, Body 4.9x3.9mm, Pitch 1.27mm, IPC Low Density)
pins on every part: 4 VCC- (power), 8 VCC+ (power)
part A pins: 1 OUT D1 (out), 2 IN D1- (in), 3 IN D1+ (in)
part B pins: 5 IN D2+ (in), 6 IN D2- (in), 7 OUT D2 (out)

## THS6052CDDA
designator U?
175 mA, +/-12 V ADSL CPE Line Driver, 10 to 30 V, 0 to 70 degC, 8-pin SOP (DDA8), Green (RoHS & no Sb/Br); Manufacturer: Texas Instruments; PartNumber: THS6052CDDA; Acl, min stable gain(V/V): 1; BW @ Acl(MHz): 170; Iib(Max)(nA): 12; Io(Typ)(mA): 175; Number of Channels: 2; Slew Rate(Typ)(V/us): 1500; Sub Family: High Output Current Amplifier (>=50mA), High Speed Amplifier (>=50MHz), High Supply Voltage Amplifier (>=30V); THD (Fc is 1 MHz)(Typ)(dB): -83; Vio(Max)(mV): 15; Vn at Flatband(Typ)(nV/rtHz): 2.1; Vs(Max)(V): 30; Vs(Min)(V): 10; DatasheetVersion: SLOS293D; PackageVersion: 4202561/F, 12/2011; PackageReference: DDA8-3025X2335TP; PackageDescription: 8-Pin PowerPAD(TM) Plastic Small Outline, Body 4.9 x 3.9 mm, Pitch 1.27 mm; Supplier 1: Digi-Key; Supplier Part Number 1: THS6052CDDA-ND; Supplier 2: Mouser; Supplier Part Number 2: 595-THS6052CDDA; Eco-Plan: Green (RoHS & no Sb/Br); Mounting Technology: Surface Mount; Code_JEDEC: MS-012; ComponentLink1Description: Manufacturer URL; ComponentLink1URL: http://www.ti.com/; ComponentLink2Description: Datasheet; ComponentLink2URL: http://www.ti.com/general/docs/lit/getliterature.tsp?genericPartNumber=THS6052&fileType=pdf; ComponentLink3Description: Package Specification; ComponentLink3URL: http://www.ti.com/litv/pdf/mpds092e
footprint TI-DDA8-3025X2335TP_N (SOP, 8-Leads, Body 4.9x3.9mm, Pitch 1.27mm, Thermal Pad 3.025x2.335mm, IPC Medium Density)
footprint TI-DDA8-3025X2335TP_L (SOP, 8-Leads, Body 4.9x3.9mm, Pitch 1.27mm, Thermal Pad 3.025x2.335mm, IPC High Density)
footprint TI-DDA8-3025X2335TP_M (SOP, 8-Leads, Body 4.9x3.9mm, Pitch 1.27mm, Thermal Pad 3.025x2.335mm, IPC Low Density)
pins on every part: 4 VCC- (power), 8 VCC+ (power), 9 EP
part A pins: 1 OUT D1 (out), 2 IN D1- (in), 3 IN D1+ (in)
part B pins: 5 IN D2+ (in), 6 IN D2- (in), 7 OUT D2 (out)

## THS6052CDDAG3
designator U?
175 mA, +/-12 V ADSL CPE Line Driver, 10 to 30 V, 0 to 70 degC, 8-pin SOP (DDA8), Green (RoHS & no Sb/Br); Manufacturer: Texas Instruments; PartNumber: THS6052CDDAG3; Acl, min stable gain(V/V): 1; BW @ Acl(MHz): 170; Iib(Max)(nA): 12; Io(Typ)(mA): 175; Number of Channels: 2; Slew Rate(Typ)(V/us): 1500; Sub Family: High Output Current Amplifier (>=50mA), High Speed Amplifier (>=50MHz), High Supply Voltage Amplifier (>=30V); THD (Fc is 1 MHz)(Typ)(dB): -83; Vio(Max)(mV): 15; Vn at Flatband(Typ)(nV/rtHz): 2.1; Vs(Max)(V): 30; Vs(Min)(V): 10; DatasheetVersion: SLOS293D; PackageVersion: 4202561/F, 12/2011; PackageReference: DDA8-3025X2335TP; PackageDescription: 8-Pin PowerPAD(TM) Plastic Small Outline, Body 4.9 x 3.9 mm, Pitch 1.27 mm; Supplier 1: Digi-Key; Supplier Part Number 1: THS6052CDDAG3-ND; Supplier 2: Mouser; Supplier Part Number 2: 595-THS6052CDDAG3; Eco-Plan: Green (RoHS & no Sb/Br); Mounting Technology: Surface Mount; Code_JEDEC: MS-012; ComponentLink1Description: Manufacturer URL; ComponentLink1URL: http://www.ti.com/; ComponentLink2Description: Datasheet; ComponentLink2URL: http://www.ti.com/general/docs/lit/getliterature.tsp?genericPartNumber=THS6052&fileType=pdf; ComponentLink3Description: Package Specification; ComponentLink3URL: http://www.ti.com/litv/pdf/mpds092e
footprint TI-DDA8-3025X2335TP_N (SOP, 8-Leads, Body 4.9x3.9mm, Pitch 1.27mm, Thermal Pad 3.025x2.335mm, IPC Medium Density)
footprint TI-DDA8-3025X2335TP_L (SOP, 8-Leads, Body 4.9x3.9mm, Pitch 1.27mm, Thermal Pad 3.025x2.335mm, IPC High Density)
footprint TI-DDA8-3025X2335TP_M (SOP, 8-Leads, Body 4.9x3.9mm, Pitch 1.27mm, Thermal Pad 3.025x2.335mm, IPC Low Density)
pins on every part: 4 VCC- (power), 8 VCC+ (power), 9 EP
part A pins: 1 OUT D1 (out), 2 IN D1- (in), 3 IN D1+ (in)
part B pins: 5 IN D2+ (in), 6 IN D2- (in), 7 OUT D2 (out)

## THS6052CDG4
designator U?
175 mA, +/-12 V ADSL CPE Line Driver, 10 to 30 V, 0 to 70 degC, 8-pin SOIC (D8), Green (RoHS & no Sb/Br); Manufacturer: Texas Instruments; PartNumber: THS6052CDG4; Acl, min stable gain(V/V): 1; BW @ Acl(MHz): 170; Iib(Max)(nA): 12; Io(Typ)(mA): 175; Number of Channels: 2; Slew Rate(Typ)(V/us): 1500; Sub Family: High Output Current Amplifier (>=50mA), High Speed Amplifier (>=50MHz), High Supply Voltage Amplifier (>=30V); THD (Fc is 1 MHz)(Typ)(dB): -83; Vio(Max)(mV): 15; Vn at Flatband(Typ)(nV/rtHz): 2.1; Vs(Max)(V): 30; Vs(Min)(V): 10; DatasheetVersion: SLOS293D; PackageVersion: 4040047-3/M, 06/2011; PackageReference: D8; PackageDescription: 8-Pin Plastic Small Outline, Body 4.9 x 3.9 mm, Pitch 1.27 mm; Supplier 1: Digi-Key; Supplier Part Number 1: THS6052CDG4-ND; Supplier 2: Mouser; Supplier Part Number 2: 595-THS6052CDG4; Eco-Plan: Green (RoHS & no Sb/Br); Mounting Technology: Surface Mount; Code_JEDEC: MS-012; ComponentLink1Description: Manufacturer URL; ComponentLink1URL: http://www.ti.com/; ComponentLink2Description: Datasheet; ComponentLink2URL: http://www.ti.com/general/docs/lit/getliterature.tsp?genericPartNumber=THS6052&fileType=pdf; ComponentLink3Description: Package Specification; ComponentLink3URL: http://www.ti.com/litv/pdf/msoi002j
footprint TI-D8_N (SOIC, 8-Leads, Body 4.9x3.9mm, Pitch 1.27mm, IPC Medium Density)
footprint TI-D8_L (SOIC, 8-Leads, Body 4.9x3.9mm, Pitch 1.27mm, IPC High Density)
footprint TI-D8_M (SOIC, 8-Leads, Body 4.9x3.9mm, Pitch 1.27mm, IPC Low Density)
pins on every part: 4 VCC- (power), 8 VCC+ (power)
part A pins: 1 OUT D1 (out), 2 IN D1- (in), 3 IN D1+ (in)
part B pins: 5 IN D2+ (in), 6 IN D2- (in), 7 OUT D2 (out)

## THS6052ID
designator U?
175 mA, +/-12 V ADSL CPE Line Driver, 10 to 30 V, -40 to 85 degC, 8-pin SOIC (D8), Green (RoHS & no Sb/Br); Manufacturer: Texas Instruments; PartNumber: THS6052ID; Acl, min stable gain(V/V): 1; BW @ Acl(MHz): 170; Iib(Max)(nA): 12; Io(Typ)(mA): 175; Number of Channels: 2; Slew Rate(Typ)(V/us): 1500; Sub Family: High Output Current Amplifier (>=50mA), High Speed Amplifier (>=50MHz), High Supply Voltage Amplifier (>=30V); THD (Fc is 1 MHz)(Typ)(dB): -83; Vio(Max)(mV): 15; Vn at Flatband(Typ)(nV/rtHz): 2.1; Vs(Max)(V): 30; Vs(Min)(V): 10; DatasheetVersion: SLOS293D; PackageVersion: 4040047-3/M, 06/2011; PackageReference: D8; PackageDescription: 8-Pin Plastic Small Outline, Body 4.9 x 3.9 mm, Pitch 1.27 mm; Supplier 1: Digi-Key; Supplier Part Number 1: 296-11984-5-ND; Supplier 2: Mouser; Supplier Part Number 2: 595-THS6052ID; Eco-Plan: Green (RoHS & no Sb/Br); Mounting Technology: Surface Mount; Code_JEDEC: MS-012; ComponentLink1Description: Manufacturer URL; ComponentLink1URL: http://www.ti.com/; ComponentLink2Description: Datasheet; ComponentLink2URL: http://www.ti.com/general/docs/lit/getliterature.tsp?genericPartNumber=THS6052&fileType=pdf; ComponentLink3Description: Package Specification; ComponentLink3URL: http://www.ti.com/litv/pdf/msoi002j
footprint TI-D8_N (SOIC, 8-Leads, Body 4.9x3.9mm, Pitch 1.27mm, IPC Medium Density)
footprint TI-D8_L (SOIC, 8-Leads, Body 4.9x3.9mm, Pitch 1.27mm, IPC High Density)
footprint TI-D8_M (SOIC, 8-Leads, Body 4.9x3.9mm, Pitch 1.27mm, IPC Low Density)
pins on every part: 4 VCC- (power), 8 VCC+ (power)
part A pins: 1 OUT D1 (out), 2 IN D1- (in), 3 IN D1+ (in)
part B pins: 5 IN D2+ (in), 6 IN D2- (in), 7 OUT D2 (out)

## THS6052IDDA
designator U?
175 mA, +/-12 V ADSL CPE Line Driver, 10 to 30 V, -40 to 85 degC, 8-pin SOP (DDA8), Green (RoHS & no Sb/Br); Manufacturer: Texas Instruments; PartNumber: THS6052IDDA; Acl, min stable gain(V/V): 1; BW @ Acl(MHz): 170; Iib(Max)(nA): 12; Io(Typ)(mA): 175; Number of Channels: 2; Slew Rate(Typ)(V/us): 1500; Sub Family: High Output Current Amplifier (>=50mA), High Speed Amplifier (>=50MHz), High Supply Voltage Amplifier (>=30V); THD (Fc is 1 MHz)(Typ)(dB): -83; Vio(Max)(mV): 15; Vn at Flatband(Typ)(nV/rtHz): 2.1; Vs(Max)(V): 30; Vs(Min)(V): 10; DatasheetVersion: SLOS293D; PackageVersion: 4202561/F, 12/2011; PackageReference: DDA8-3025X2335TP; PackageDescription: 8-Pin PowerPAD(TM) Plastic Small Outline, Body 4.9 x 3.9 mm, Pitch 1.27 mm; Supplier 1: Digi-Key; Supplier Part Number 1: 296-12668-5-ND; Supplier 2: Mouser; Supplier Part Number 2: 595-THS6052IDDA; Eco-Plan: Green (RoHS & no Sb/Br); Mounting Technology: Surface Mount; Code_JEDEC: MS-012; ComponentLink1Description: Manufacturer URL; ComponentLink1URL: http://www.ti.com/; ComponentLink2Description: Datasheet; ComponentLink2URL: http://www.ti.com/general/docs/lit/getliterature.tsp?genericPartNumber=THS6052&fileType=pdf; ComponentLink3Description: Package Specification; ComponentLink3URL: http://www.ti.com/litv/pdf/mpds092e
footprint TI-DDA8-3025X2335TP_N (SOP, 8-Leads, Body 4.9x3.9mm, Pitch 1.27mm, Thermal Pad 3.025x2.335mm, IPC Medium Density)
footprint TI-DDA8-3025X2335TP_L (SOP, 8-Leads, Body 4.9x3.9mm, Pitch 1.27mm, Thermal Pad 3.025x2.335mm, IPC High Density)
footprint TI-DDA8-3025X2335TP_M (SOP, 8-Leads, Body 4.9x3.9mm, Pitch 1.27mm, Thermal Pad 3.025x2.335mm, IPC Low Density)
pins on every part: 4 VCC- (power), 8 VCC+ (power), 9 EP
part A pins: 1 OUT D1 (out), 2 IN D1- (in), 3 IN D1+ (in)
part B pins: 5 IN D2+ (in), 6 IN D2- (in), 7 OUT D2 (out)

## THS6052IDDAG3
designator U?
175 mA, +/-12 V ADSL CPE Line Driver, 10 to 30 V, -40 to 85 degC, 8-pin SOP (DDA8), Green (RoHS & no Sb/Br); Manufacturer: Texas Instruments; PartNumber: THS6052IDDAG3; Acl, min stable gain(V/V): 1; BW @ Acl(MHz): 170; Iib(Max)(nA): 12; Io(Typ)(mA): 175; Number of Channels: 2; Slew Rate(Typ)(V/us): 1500; Sub Family: High Output Current Amplifier (>=50mA), High Speed Amplifier (>=50MHz), High Supply Voltage Amplifier (>=30V); THD (Fc is 1 MHz)(Typ)(dB): -83; Vio(Max)(mV): 15; Vn at Flatband(Typ)(nV/rtHz): 2.1; Vs(Max)(V): 30; Vs(Min)(V): 10; DatasheetVersion: SLOS293D; PackageVersion: 4202561/F, 12/2011; PackageReference: DDA8-3025X2335TP; PackageDescription: 8-Pin PowerPAD(TM) Plastic Small Outline, Body 4.9 x 3.9 mm, Pitch 1.27 mm; Supplier 1: Digi-Key; Supplier Part Number 1: THS6052IDDAG3-ND; Supplier 2: Mouser; Supplier Part Number 2: 595-THS6052IDDAG3; Eco-Plan: Green (RoHS & no Sb/Br); Mounting Technology: Surface Mount; Code_JEDEC: MS-012; ComponentLink1Description: Manufacturer URL; ComponentLink1URL: http://www.ti.com/; ComponentLink2Description: Datasheet; ComponentLink2URL: http://www.ti.com/general/docs/lit/getliterature.tsp?genericPartNumber=THS6052&fileType=pdf; ComponentLink3Description: Package Specification; ComponentLink3URL: http://www.ti.com/litv/pdf/mpds092e
footprint TI-DDA8-3025X2335TP_N (SOP, 8-Leads, Body 4.9x3.9mm, Pitch 1.27mm, Thermal Pad 3.025x2.335mm, IPC Medium Density)
footprint TI-DDA8-3025X2335TP_L (SOP, 8-Leads, Body 4.9x3.9mm, Pitch 1.27mm, Thermal Pad 3.025x2.335mm, IPC High Density)
footprint TI-DDA8-3025X2335TP_M (SOP, 8-Leads, Body 4.9x3.9mm, Pitch 1.27mm, Thermal Pad 3.025x2.335mm, IPC Low Density)
pins on every part: 4 VCC- (power), 8 VCC+ (power), 9 EP
part A pins: 1 OUT D1 (out), 2 IN D1- (in), 3 IN D1+ (in)
part B pins: 5 IN D2+ (in), 6 IN D2- (in), 7 OUT D2 (out)

## THS6052IDG4
designator U?
175 mA, +/-12 V ADSL CPE Line Driver, 10 to 30 V, -40 to 85 degC, 8-pin SOIC (D8), Green (RoHS & no Sb/Br); Manufacturer: Texas Instruments; PartNumber: THS6052IDG4; Acl, min stable gain(V/V): 1; BW @ Acl(MHz): 170; Iib(Max)(nA): 12; Io(Typ)(mA): 175; Number of Channels: 2; Slew Rate(Typ)(V/us): 1500; Sub Family: High Output Current Amplifier (>=50mA), High Speed Amplifier (>=50MHz), High Supply Voltage Amplifier (>=30V); THD (Fc is 1 MHz)(Typ)(dB): -83; Vio(Max)(mV): 15; Vn at Flatband(Typ)(nV/rtHz): 2.1; Vs(Max)(V): 30; Vs(Min)(V): 10; DatasheetVersion: SLOS293D; PackageVersion: 4040047-3/M, 06/2011; PackageReference: D8; PackageDescription: 8-Pin Plastic Small Outline, Body 4.9 x 3.9 mm, Pitch 1.27 mm; Supplier 1: Digi-Key; Supplier Part Number 1: THS6052IDG4-ND; Supplier 2: Newark; Supplier Part Number 2: 28M7742; Supplier 3: Mouser; Supplier Part Number 3: 595-THS6052IDG4; Eco-Plan: Green (RoHS & no Sb/Br); Mounting Technology: Surface Mount; Code_JEDEC: MS-012; ComponentLink1Description: Manufacturer URL; ComponentLink1URL: http://www.ti.com/; ComponentLink2Description: Datasheet; ComponentLink2URL: http://www.ti.com/general/docs/lit/getliterature.tsp?genericPartNumber=THS6052&fileType=pdf; ComponentLink3Description: Package Specification; ComponentLink3URL: http://www.ti.com/litv/pdf/msoi002j
footprint TI-D8_N (SOIC, 8-Leads, Body 4.9x3.9mm, Pitch 1.27mm, IPC Medium Density)
footprint TI-D8_L (SOIC, 8-Leads, Body 4.9x3.9mm, Pitch 1.27mm, IPC High Density)
footprint TI-D8_M (SOIC, 8-Leads, Body 4.9x3.9mm, Pitch 1.27mm, IPC Low Density)
pins on every part: 4 VCC- (power), 8 VCC+ (power)
part A pins: 1 OUT D1 (out), 2 IN D1- (in), 3 IN D1+ (in)
part B pins: 5 IN D2+ (in), 6 IN D2- (in), 7 OUT D2 (out)

## THS6053CPWPR
designator U?
175 mA, +/-12 V ADSL CPE Line Driver with Shutdown, 10 to 30 V, 0 to 70 degC, 14-pin SOP (PWP14), Green (RoHS & no Sb/Br); Manufacturer: Texas Instruments; PartNumber: THS6053CPWPR; Acl, min stable gain(V/V): 1; BW @ Acl(MHz): 170; Iib(Max)(nA): 12000; Io(Typ)(mA): 175; Number of Channels: 2; Slew Rate(Typ)(V/us): 1200; Sub Family: High Output Current Amplifier (>=50mA), High Speed Amplifier (>=50MHz), High Supply Voltage Amplifier (>=30V); THD (Fc is 1 MHz)(Typ)(dB): -85; Vio(Max)(mV): 15; Vn at Flatband(Typ)(nV/rtHz): 2.1; Vs(Max)(V): 30; Vs(Min)(V): 10; DatasheetVersion: SLOS293D; PackageVersion: 4073225-2/I, 05/2011; PackageReference: PWP14-1830X2055TP; PackageDescription: 14-Pin Plastic Small Outline, Body 4.4 x 5 mm, Pitch 0.65 mm; Supplier 1: Digi-Key; Supplier Part Number 1: THS6053CPWPR-ND; Supplier 2: Mouser; Supplier Part Number 2: 595-THS6053CPWPR; Eco-Plan: Green (RoHS & no Sb/Br); Mounting Technology: Surface Mount; Code_JEDEC: MO-153; ComponentLink1Description: Manufacturer URL; ComponentLink1URL: http://www.ti.com/; ComponentLink2Description: Datasheet; ComponentLink2URL: http://www.ti.com/general/docs/lit/getliterature.tsp?genericPartNumber=THS6053&fileType=pdf; ComponentLink3Description: Package Specification; ComponentLink3URL: http://www.ti.com/litv/pdf/mpds373
footprint TI-PWP14-1830X2055TP_N (SOP, 14-Leads, Body 5x4.4mm, Pitch 0.65mm, Thermal Pad 1.830x2.055mm, IPC Medium Density)
footprint TI-PWP14-1830X2055TP_L (SOP, 14-Leads, Body 5x4.4mm, Pitch 0.65mm, Thermal Pad 1.830x2.055mm, IPC High Density)
footprint TI-PWP14-1830X2055TP_M (SOP, 14-Leads, Body 5x4.4mm, Pitch 0.65mm, Thermal Pad 1.830x2.055mm, IPC Low Density)
part A pins: 1 OUT D1 (out), 2 IN D1- (in), 3 IN D1+ (in)
part B pins: 11 IN D2+ (in), 12 IN D2- (in), 13 OUT D2 (out)
part C pins: 4 VCC- (power), 5 NC, 6 GND (power), 7 NC, 8 NC, 9 SHUTDOWN (in), 10 NC, 14 VCC+ (power), 15 EP

## THS6053CPWPRG4
designator U?
175 mA, +/-12 V ADSL CPE Line Driver with Shutdown, 10 to 30 V, 0 to 70 degC, 14-pin SOP (PWP14), Green (RoHS & no Sb/Br); Manufacturer: Texas Instruments; PartNumber: THS6053CPWPRG4; Acl, min stable gain(V/V): 1; BW @ Acl(MHz): 170; Iib(Max)(nA): 12000; Io(Typ)(mA): 175; Number of Channels: 2; Slew Rate(Typ)(V/us): 1200; Sub Family: High Output Current Amplifier (>=50mA), High Speed Amplifier (>=50MHz), High Supply Voltage Amplifier (>=30V); THD (Fc is 1 MHz)(Typ)(dB): -85; Vio(Max)(mV): 15; Vn at Flatband(Typ)(nV/rtHz): 2.1; Vs(Max)(V): 30; Vs(Min)(V): 10; DatasheetVersion: SLOS293D; PackageVersion: 4073225-2/I, 05/2011; PackageReference: PWP14-1830X2055TP; PackageDescription: 14-Pin Plastic Small Outline, Body 4.4 x 5 mm, Pitch 0.65 mm; Supplier 1: Digi-Key; Supplier Part Number 1: THS6053CPWPRG4-ND; Supplier 2: Mouser; Supplier Part Number 2: 595-THS6053CPWPRG4; Eco-Plan: Green (RoHS & no Sb/Br); Mounting Technology: Surface Mount; Code_JEDEC: MO-153; ComponentLink1Description: Manufacturer URL; ComponentLink1URL: http://www.ti.com/; ComponentLink2Description: Datasheet; ComponentLink2URL: http://www.ti.com/general/docs/lit/getliterature.tsp?genericPartNumber=THS6053&fileType=pdf; ComponentLink3Description: Package Specification; ComponentLink3URL: http://www.ti.com/litv/pdf/mpds373
footprint TI-PWP14-1830X2055TP_N (SOP, 14-Leads, Body 5x4.4mm, Pitch 0.65mm, Thermal Pad 1.830x2.055mm, IPC Medium Density)
footprint TI-PWP14-1830X2055TP_L (SOP, 14-Leads, Body 5x4.4mm, Pitch 0.65mm, Thermal Pad 1.830x2.055mm, IPC High Density)
footprint TI-PWP14-1830X2055TP_M (SOP, 14-Leads, Body 5x4.4mm, Pitch 0.65mm, Thermal Pad 1.830x2.055mm, IPC Low Density)
part A pins: 1 OUT D1 (out), 2 IN D1- (in), 3 IN D1+ (in)
part B pins: 11 IN D2+ (in), 12 IN D2- (in), 13 OUT D2 (out)
part C pins: 4 VCC- (power), 5 NC, 6 GND (power), 7 NC, 8 NC, 9 SHUTDOWN (in), 10 NC, 14 VCC+ (power), 15 EP